# Altium schematic symbol library 3Pin.SchLib: 1 symbol
Pins are listed as number, name and electrical type; pins without a type are passive.

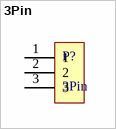
[diagram p0: symbol 3Pin]

## 3Pin
designator P?
footprint 3Pin-2.54
pins: 1, 2, 3